# Altium integrated library Analog Devices RF IF Modulators and Demodulators.IntLib: 86 symbols (part 4 of 8)
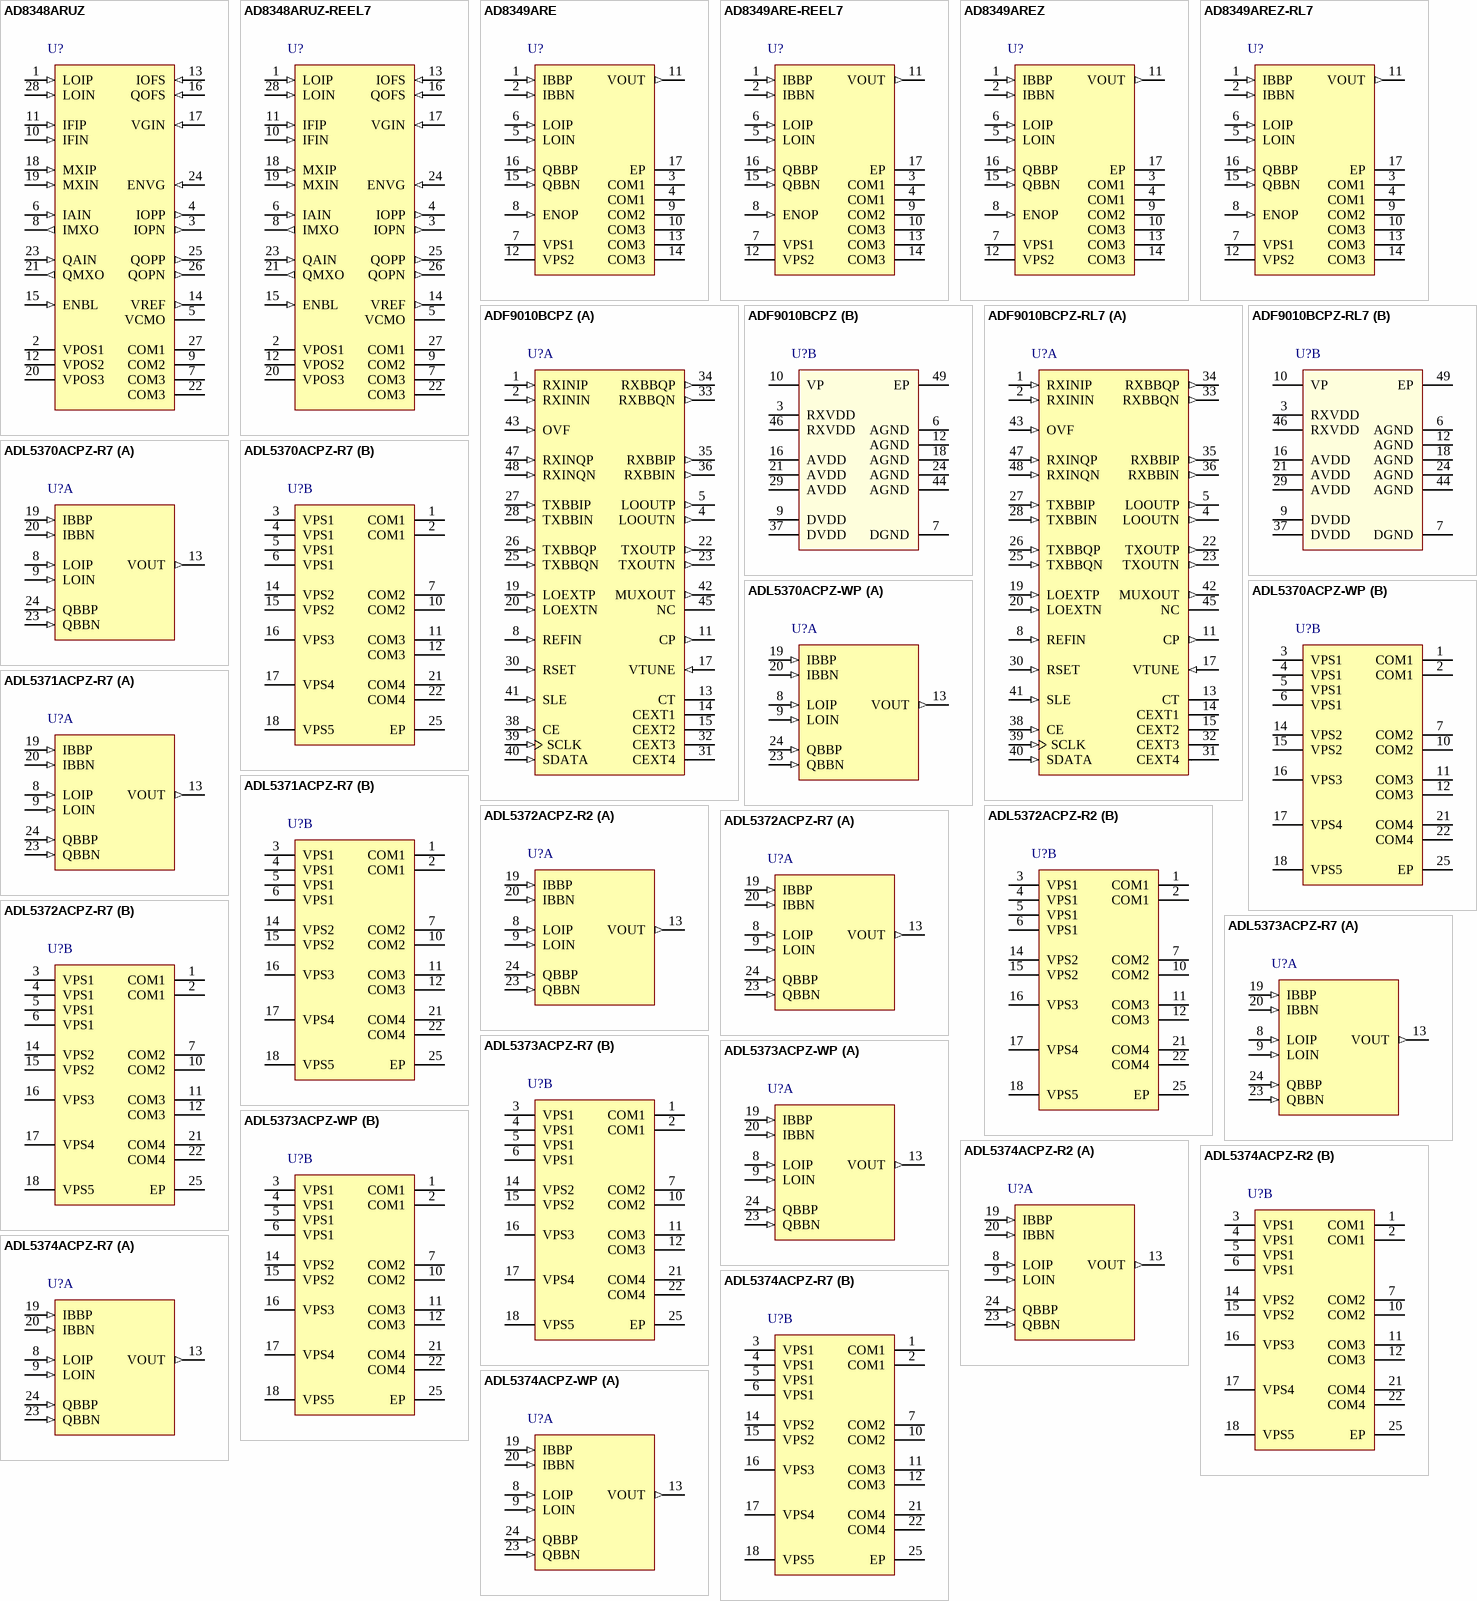
[diagram p8: symbols AD8348ARUZ to ADL5374ACPZ-WP]

## AD8349AREZ
designator U?
700 MHz to 2700 MHz Quadrature Modulator, RE-16-2, Pb-Free, 96 Tube; Min RF Frequency (MHz): 700MHz; Max RF Frequency (MHz): 2.7GHz; IQ Freq (MHz): 160MHz; Output P1dB (dBm): 6; DatasheetVersion: RevA; PackageVersion: 050806-A; PackageReference: RE-16-2; PackageDescription: 16-Lead Thin Shrink Small Outline With Exposed Pad [TSSOP_EP]; Code_JEDEC: MO-153-ABT; ComponentLink1Description: Manufacturer URL; ComponentLink1URL: www.analog.com; ComponentLink2Description: Datasheet; ComponentLink2URL: http://www.analog.com/static/imported-files/data_sheets/AD8349.pdf; ComponentLink3Description: Package Specification; ComponentLink3URL: http://www.analog.com/static/imported-files/packages/PKG_PDF/TSSOP_EP(RE)/RE_16_2.pdf
footprint ADI-RE-16-2_N (TSOP, 16-Leads, Body 5x4.4mm, Pitch 0.65mm, Thermal Pad, IPC Medium Density)
footprint ADI-RE-16-2_L (TSOP, 16-Leads, Body 5x4.4mm, Pitch 0.65mm, Thermal Pad, IPC High Density)
footprint ADI-RE-16-2_M (TSOP, 16-Leads, Body 5x4.4mm, Pitch 0.65mm, Thermal Pad, IPC Low Density)
pins: 1 IBBP (in) "Differential In-Phase and Quadrature Baseband Inputs. These high impedance inputs must be dc-biased to approximately 400 mV dc, and must be driven from a low impedance source. [see datasheet]", 2 IBBN (in) "Differential In-Phase and Quadrature Baseband Inputs. These high impedance inputs must be dc-biased to approximately 400 mV dc, and must be driven from a low impedance source. [see datasheet]", 3 COM1 (power) "Common Pin for LO Phase Splitter and LO Buffers. COM1, COM2, and COM3 should all be connected to a ground plane via a low impedance path.", 4 COM1 (power) "Common Pin for LO Phase Splitter and LO Buffers. COM1, COM2, and COM3 should all be connected to a ground plane via a low impedance path.", 5 LOIN (in) "Differential Local Oscillator Inputs. Internally dc-biased to approximately 1.8 V when VS = 5.0 V. Pins must be ac-coupled. Single-ended drive is possible with degradation in performance.", 6 LOIP (in) "Differential Local Oscillator Inputs. Internally dc-biased to approximately 1.8 V when VS = 5.0 V. Pins must be ac-coupled. Single-ended drive is possible with degradation in performance.", 7 VPS1 (power) "Positive Supply Voltage (4.75 V to 5.5 V) for the LO Bias-Cell and Buffer. VPS1 and VPS2 should be connected to the same supply. [see datasheet]", 8 ENOP (in) "Output Enable. This pin can be used to enable or disable the RF output. Connect to high logic level for normal operation. Connect to low logic level to disable output.", 9 COM2 (power) "Common Pin for the Output Amplifier. COM1, COM2, and COM3 should all be connected to a ground plane via a low impedance path.", 10 COM3 (power) "Common Pin for Input V-to-I Converters and Mixer Cores. COM1, COM2, and COM3 should all be connected to a ground plane via a low impedance path.", 11 VOUT (out) "Device Output. Single-ended, 50  ohm internally biased RF output. Pin must be ac-coupled to the load.", 12 VPS2 (power) "Positive Supply Voltage (4.75 V to 5.5 V) for the Baseband Input V-to-I Converters, Mixer Core, Band Gap Reference, and Output Amplifer. [see datasheet]", 13 COM3 (power) "Common Pin for Input V-to-I Converters and Mixer Cores. COM1, COM2, and COM3 should all be connected to a ground plane via a low impedance path.", 14 COM3 (power) "Common Pin for Input V-to-I Converters and Mixer Cores. COM1, COM2, and COM3 should all be connected to a ground plane via a low impedance path.", 15 QBBN (in) "Differential In-Phase and Quadrature Baseband Inputs. These high impedance inputs must be dc-biased to approximately 400 mV dc, and must be driven from a low impedance source. [see datasheet]", 16 QBBP (in) "Differential In-Phase and Quadrature Baseband Inputs. These high impedance inputs must be dc-biased to approximately 400 mV dc, and must be driven from a low impedance source. [see datasheet]", 17 EP (power) "Exposed Pad"

## AD8349AREZ-RL7
designator U?
700 MHz to 2700 MHz Quadrature Modulator, RE-16-2, Pb-Free, 1000 Reel; Min RF Frequency (MHz): 700MHz; Max RF Frequency (MHz): 2.7GHz; IQ Freq (MHz): 160MHz; Output P1dB (dBm): 6; DatasheetVersion: RevA; PackageVersion: 050806-A; PackageReference: RE-16-2; PackageDescription: 16-Lead Thin Shrink Small Outline With Exposed Pad [TSSOP_EP]; Code_JEDEC: MO-153-ABT; ComponentLink1Description: Manufacturer URL; ComponentLink1URL: www.analog.com; ComponentLink2Description: Datasheet; ComponentLink2URL: http://www.analog.com/static/imported-files/data_sheets/AD8349.pdf; ComponentLink3Description: Package Specification; ComponentLink3URL: http://www.analog.com/static/imported-files/packages/PKG_PDF/TSSOP_EP(RE)/RE_16_2.pdf
footprint ADI-RE-16-2_N (TSOP, 16-Leads, Body 5x4.4mm, Pitch 0.65mm, Thermal Pad, IPC Medium Density)
footprint ADI-RE-16-2_L (TSOP, 16-Leads, Body 5x4.4mm, Pitch 0.65mm, Thermal Pad, IPC High Density)
footprint ADI-RE-16-2_M (TSOP, 16-Leads, Body 5x4.4mm, Pitch 0.65mm, Thermal Pad, IPC Low Density)
pins: 1 IBBP (in) "Differential In-Phase and Quadrature Baseband Inputs. These high impedance inputs must be dc-biased to approximately 400 mV dc, and must be driven from a low impedance source. [see datasheet]", 2 IBBN (in) "Differential In-Phase and Quadrature Baseband Inputs. These high impedance inputs must be dc-biased to approximately 400 mV dc, and must be driven from a low impedance source. [see datasheet]", 3 COM1 (power) "Common Pin for LO Phase Splitter and LO Buffers. COM1, COM2, and COM3 should all be connected to a ground plane via a low impedance path.", 4 COM1 (power) "Common Pin for LO Phase Splitter and LO Buffers. COM1, COM2, and COM3 should all be connected to a ground plane via a low impedance path.", 5 LOIN (in) "Differential Local Oscillator Inputs. Internally dc-biased to approximately 1.8 V when VS = 5.0 V. Pins must be ac-coupled. Single-ended drive is possible with degradation in performance.", 6 LOIP (in) "Differential Local Oscillator Inputs. Internally dc-biased to approximately 1.8 V when VS = 5.0 V. Pins must be ac-coupled. Single-ended drive is possible with degradation in performance.", 7 VPS1 (power) "Positive Supply Voltage (4.75 V to 5.5 V) for the LO Bias-Cell and Buffer. VPS1 and VPS2 should be connected to the same supply. [see datasheet]", 8 ENOP (in) "Output Enable. This pin can be used to enable or disable the RF output. Connect to high logic level for normal operation. Connect to low logic level to disable output.", 9 COM2 (power) "Common Pin for the Output Amplifier. COM1, COM2, and COM3 should all be connected to a ground plane via a low impedance path.", 10 COM3 (power) "Common Pin for Input V-to-I Converters and Mixer Cores. COM1, COM2, and COM3 should all be connected to a ground plane via a low impedance path.", 11 VOUT (out) "Device Output. Single-ended, 50  ohm internally biased RF output. Pin must be ac-coupled to the load.", 12 VPS2 (power) "Positive Supply Voltage (4.75 V to 5.5 V) for the Baseband Input V-to-I Converters, Mixer Core, Band Gap Reference, and Output Amplifer. [see datasheet]", 13 COM3 (power) "Common Pin for Input V-to-I Converters and Mixer Cores. COM1, COM2, and COM3 should all be connected to a ground plane via a low impedance path.", 14 COM3 (power) "Common Pin for Input V-to-I Converters and Mixer Cores. COM1, COM2, and COM3 should all be connected to a ground plane via a low impedance path.", 15 QBBN (in) "Differential In-Phase and Quadrature Baseband Inputs. These high impedance inputs must be dc-biased to approximately 400 mV dc, and must be driven from a low impedance source. [see datasheet]", 16 QBBP (in) "Differential In-Phase and Quadrature Baseband Inputs. These high impedance inputs must be dc-biased to approximately 400 mV dc, and must be driven from a low impedance source. [see datasheet]", 17 EP (power) "Exposed Pad"

## ADF9010BCPZ
designator U?
900 MHz ISM Band Analog RF Front End, CP-48-1, Pb-Free, 260 Tray; Min RF Frequency (MHz): 840MHz; Max RF Frequency (MHz): 960MHz; IQ Freq (MHz): 20MHz; IIP3 (+dBm): 24dBm; Output P1dB (dBm): 10; DatasheetVersion: Rev0; PackageVersion: Jan-2005; PackageReference: CP-48-1; PackageDescription: 48-Lead Lead Frame Chip Scale Package [LFCSP_VQ]; Code_JEDEC: MO-220-VKKD-2; ComponentLink1Description: Manufacturer URL; ComponentLink1URL: www.analog.com; ComponentLink2Description: Datasheet; ComponentLink2URL: http://www.analog.com/static/imported-files/data_sheets/ADF9010.pdf; ComponentLink3Description: Package Specification; ComponentLink3URL: http://www.analog.com/static/imported-files/packages/PKG_PDF/LFCSP(CP)/CP-48/CP_48_1.pdf
footprint ADI-CP-48-1_N (QFN, 48-Leads, Body 7x7mm, Pitch 0.5mm, Thermal Pad 5.1x5.1mm, IPC Medium Density)
footprint ADI-CP-48-1_L (QFN, 48-Leads, Body 7x7mm, Pitch 0.5mm, Thermal Pad 5.1x5.1mm, IPC High Density)
footprint ADI-CP-48-1_M (QFN, 48-Leads, Body 7x7mm, Pitch 0.5mm, Thermal Pad 5.1x5.1mm, IPC Low Density)
part A pins: 1 RXINIP (in) "Input/Complementary In-Phase Input to the Receive Filter Stage", 2 RXININ (in) "Input/Complementary In-Phase Input to the Receive Filter Stage", 4 LOOUTN (out) "Buffered Local Oscillator Output. These outputs are used to provide the LO for the external RF demodulator. [see datasheet]", 5 LOOUTP (out) "Buffered Local Oscillator Output. These outputs are used to provide the LO for the external RF demodulator. [see datasheet]", 8 REFIN (in) "PLL Reference Input. This is a CMOS input with a nominal threshold of VDD/2 and a dc equivalent input resistance of 100 k ohm (see Figure 13). [see datasheet]", 11 CP (out) "Charge Pump Output. When enabled, this pin provides +/-ICP to the external loop filter, which in turn drives the external VCO.", 13 CT "A capacitor connected to this pin is used to roll off noise from the VCO. It should be decoupled to AGND with a value of 10 nF. The output voltage on this part is proportional to temperature. [see datasheet]", 14 CEXT1 "A capacitor connected to this pin is used to roll off noise from the VCO. It should be decoupled to AGND with a value of 10 nF.", 15 CEXT2 "A capacitor connected to this pin is used to roll off noise from the VCO. It should be decoupled to AGND with a value of 10 nF.", 17 VTUNE (in) "Control Input to the VCO. This input determines the VCO frequency and is derived from filtering the CP output.", 19 LOEXTP (in) "Single-Ended External VCO Input of 50  ohm. This is used if the ADF9010 utilizes an optional external VCO. These pins are internally dc-biased and must be ac-coupled. [see datasheet]", 20 LOEXTN (in) "Single-Ended External VCO Input of 50  ohm. This is used if the ADF9010 utilizes an optional external VCO. These pins are internally dc-biased and must be ac-coupled. [see datasheet]", 22 TXOUTP (out) "Buffered Tx Output. These pins contain the Tx output signal, which can be combined in a balun for best results.", 23 TXOUTN (out) "Buffered Tx Output. These pins contain the Tx output signal, which can be combined in a balun for best results.", 25 TXBBQN (in) "Baseband Quadrature Phase Input/Complementary Input to the Transmit Modulator.", 26 TXBBQP (in) "Baseband Quadrature Phase Input/Complementary Input to the Transmit Modulator.", 27 TXBBIP (in) "Baseband In-Phase Input/Complementary to the Transmit Modulator", 28 TXBBIN (in) "Baseband In-Phase Input/Complementary to the Transmit Modulator", 30 RSET (in) "Connecting a resistor between this pin and AGND sets the maximum charge pump output current. The nominal voltage potential at the RSET pin is 0.66 V. [see datasheet]", 31 CEXT4 "A capacitor connected to this pin is used to roll off noise from the VCO. It should be decoupled to AGND with a value of 10 nF.", 32 CEXT3 "A capacitor connected to this pin is used to roll off noise from the VCO. It should be decoupled to AGND with a value of 10 nF.", 33 RXBBQN (out) "Output/Complementary Filtered Quadrature Signals from the Receive Filter Stage. The filtered output is passed to the baseband MxFE chip.", 34 RXBBQP (out) "Output/Complementary Filtered Quadrature Signals from the Receive Filter Stage. The filtered output is passed to the baseband MxFE chip.", 35 RXBBIP (out) "Output/Complementary Filtered In-Phase from the Receive Filter Stage. The filtered output is passed to the baseband MxFE chip.", 36 RXBBIN (out) "Output/Complementary Filtered In-Phase from the Receive Filter Stage. The filtered output is passed to the baseband MxFE chip.", 38 CE (in) "Chip Enable. A Logic 0 on this pin powers down the device. A Logic 1 on this pin enables the device depending on the status of the power-down bits.", 39 SCLK (in) "Serial Clock Input. This serial clock is used to clock in the serial data to the registers. The data is latched into the 24-bit shift register on the SCLK rising edge. [see datasheet]", 40 SDATA (in) "Serial Data Input. The serial data is loaded MSB first with the two LSBs being the control bits. This is a high impedance CMOS input.", 41 SLE (in) "Load Enable, CMOS Input. When LE goes high, the data stored in the shift register is loaded into one of the four latches; the latch uses the control bits.", 42 MUXOUT (out) "This multiplexer output allows either the PLL lock detect, the scaled VCO frequency, or the scaled PLL reference frequency to be accessed externally", 43 OVF (in) "A rising edge on this pin drops the gain of the Rx path by 6 dB. This is used to rapidly drop the gain if the ADC detects an overload.", 45 NC "No Connect.", 47 RXINQP (in) "Input/Complementary Quadrature Input to the Receive Filter Stage.", 48 RXINQN (in) "Input/Complementary Quadrature Input to the Receive Filter Stage."
part B pins: 3 RXVDD (power) "Receiver Filter Power Supply. This voltage ranges from 3.15 V to 3.45 V. Decoupling capacitors to the analog ground plane should be placed as close as possible to this pin. [see datasheet]", 6 AGND (power) "Analog Ground. This is the ground return path of analog circuitry", 7 DGND (power) "Digital Ground.", 9 DVDD (power) "Digital Power Supply. This voltage ranges from 3.15 V to 3.45 V. Decoupling capacitors to the digital ground plane should be placed as close as possible to this pin. [see datasheet]", 10 VP (power) "This pin supplies the voltage to the charge pump. If the internal VCO is used, it should equal AVDD and DVDD. If an external VCO is used, the voltage can be AVDD < VP < 5.5 V.", 12 AGND (power) "Analog Ground. This is the ground return path of analog circuitry", 16 AVDD (power) "Analog Power Supply. This voltage ranges from 3.15 V to 3.45 V. Decoupling capacitors to the analog ground plane should be placed as close as possible to this pin. [see datasheet]", 18 AGND (power) "Analog Ground. This is the ground return path of analog circuitry", 21 AVDD (power) "Analog Power Supply. This voltage ranges from 3.15 V to 3.45 V. Decoupling capacitors to the analog ground plane should be placed as close as possible to this pin. [see datasheet]", 24 AGND (power) "Analog Ground. This is the ground return path of analog circuitry", 29 AVDD (power) "Analog Power Supply. This voltage ranges from 3.15 V to 3.45 V. Decoupling capacitors to the analog ground plane should be placed as close as possible to this pin. [see datasheet]", 37 DVDD (power) "Digital Power Supply. This voltage ranges from 3.15 V to 3.45 V. Decoupling capacitors to the digital ground plane should be placed as close as possible to this pin. [see datasheet]", 44 AGND (power) "Analog Ground. This is the ground return path of analog circuitry", 46 RXVDD (power) "Receiver Filter Power Supply. This voltage ranges from 3.15 V to 3.45 V. Decoupling capacitors to the analog ground plane should be placed as close as possible to this pin. [see datasheet]", 49 EP (power) "Exposed pad"

## ADF9010BCPZ-RL7
designator U?
900 MHz ISM Band Analog RF Front End, CP-48-1, Pb-Free, 750 Reel; Min RF Frequency (MHz): 840MHz; Max RF Frequency (MHz): 960MHz; IQ Freq (MHz): 20MHz; IIP3 (+dBm): 24dBm; Output P1dB (dBm): 10; DatasheetVersion: Rev0; PackageVersion: Jan-2005; PackageReference: CP-48-1; PackageDescription: 48-Lead Lead Frame Chip Scale Package [LFCSP_VQ]; Code_JEDEC: MO-220-VKKD-2; ComponentLink1Description: Manufacturer URL; ComponentLink1URL: www.analog.com; ComponentLink2Description: Datasheet; ComponentLink2URL: http://www.analog.com/static/imported-files/data_sheets/ADF9010.pdf; ComponentLink3Description: Package Specification; ComponentLink3URL: http://www.analog.com/static/imported-files/packages/PKG_PDF/LFCSP(CP)/CP-48/CP_48_1.pdf
footprint ADI-CP-48-1_N (QFN, 48-Leads, Body 7x7mm, Pitch 0.5mm, Thermal Pad 5.1x5.1mm, IPC Medium Density)
footprint ADI-CP-48-1_L (QFN, 48-Leads, Body 7x7mm, Pitch 0.5mm, Thermal Pad 5.1x5.1mm, IPC High Density)
footprint ADI-CP-48-1_M (QFN, 48-Leads, Body 7x7mm, Pitch 0.5mm, Thermal Pad 5.1x5.1mm, IPC Low Density)
part A pins: 1 RXINIP (in) "Input/Complementary In-Phase Input to the Receive Filter Stage", 2 RXININ (in) "Input/Complementary In-Phase Input to the Receive Filter Stage", 4 LOOUTN (out) "Buffered Local Oscillator Output. These outputs are used to provide the LO for the external RF demodulator. [see datasheet]", 5 LOOUTP (out) "Buffered Local Oscillator Output. These outputs are used to provide the LO for the external RF demodulator. [see datasheet]", 8 REFIN (in) "PLL Reference Input. This is a CMOS input with a nominal threshold of VDD/2 and a dc equivalent input resistance of 100 k ohm (see Figure 13). [see datasheet]", 11 CP (out) "Charge Pump Output. When enabled, this pin provides +/-ICP to the external loop filter, which in turn drives the external VCO.", 13 CT "A capacitor connected to this pin is used to roll off noise from the VCO. It should be decoupled to AGND with a value of 10 nF. The output voltage on this part is proportional to temperature. [see datasheet]", 14 CEXT1 "A capacitor connected to this pin is used to roll off noise from the VCO. It should be decoupled to AGND with a value of 10 nF.", 15 CEXT2 "A capacitor connected to this pin is used to roll off noise from the VCO. It should be decoupled to AGND with a value of 10 nF.", 17 VTUNE (in) "Control Input to the VCO. This input determines the VCO frequency and is derived from filtering the CP output.", 19 LOEXTP (in) "Single-Ended External VCO Input of 50  ohm. This is used if the ADF9010 utilizes an optional external VCO. These pins are internally dc-biased and must be ac-coupled. [see datasheet]", 20 LOEXTN (in) "Single-Ended External VCO Input of 50  ohm. This is used if the ADF9010 utilizes an optional external VCO. These pins are internally dc-biased and must be ac-coupled. [see datasheet]", 22 TXOUTP (out) "Buffered Tx Output. These pins contain the Tx output signal, which can be combined in a balun for best results.", 23 TXOUTN (out) "Buffered Tx Output. These pins contain the Tx output signal, which can be combined in a balun for best results.", 25 TXBBQN (in) "Baseband Quadrature Phase Input/Complementary Input to the Transmit Modulator.", 26 TXBBQP (in) "Baseband Quadrature Phase Input/Complementary Input to the Transmit Modulator.", 27 TXBBIP (in) "Baseband In-Phase Input/Complementary to the Transmit Modulator", 28 TXBBIN (in) "Baseband In-Phase Input/Complementary to the Transmit Modulator", 30 RSET (in) "Connecting a resistor between this pin and AGND sets the maximum charge pump output current. The nominal voltage potential at the RSET pin is 0.66 V. [see datasheet]", 31 CEXT4 "A capacitor connected to this pin is used to roll off noise from the VCO. It should be decoupled to AGND with a value of 10 nF.", 32 CEXT3 "A capacitor connected to this pin is used to roll off noise from the VCO. It should be decoupled to AGND with a value of 10 nF.", 33 RXBBQN (out) "Output/Complementary Filtered Quadrature Signals from the Receive Filter Stage. The filtered output is passed to the baseband MxFE chip.", 34 RXBBQP (out) "Output/Complementary Filtered Quadrature Signals from the Receive Filter Stage. The filtered output is passed to the baseband MxFE chip.", 35 RXBBIP (out) "Output/Complementary Filtered In-Phase from the Receive Filter Stage. The filtered output is passed to the baseband MxFE chip.", 36 RXBBIN (out) "Output/Complementary Filtered In-Phase from the Receive Filter Stage. The filtered output is passed to the baseband MxFE chip.", 38 CE (in) "Chip Enable. A Logic 0 on this pin powers down the device. A Logic 1 on this pin enables the device depending on the status of the power-down bits.", 39 SCLK (in) "Serial Clock Input. This serial clock is used to clock in the serial data to the registers. The data is latched into the 24-bit shift register on the SCLK rising edge. [see datasheet]", 40 SDATA (in) "Serial Data Input. The serial data is loaded MSB first with the two LSBs being the control bits. This is a high impedance CMOS input.", 41 SLE (in) "Load Enable, CMOS Input. When LE goes high, the data stored in the shift register is loaded into one of the four latches; the latch uses the control bits.", 42 MUXOUT (out) "This multiplexer output allows either the PLL lock detect, the scaled VCO frequency, or the scaled PLL reference frequency to be accessed externally", 43 OVF (in) "A rising edge on this pin drops the gain of the Rx path by 6 dB. This is used to rapidly drop the gain if the ADC detects an overload.", 45 NC "No Connect.", 47 RXINQP (in) "Input/Complementary Quadrature Input to the Receive Filter Stage.", 48 RXINQN (in) "Input/Complementary Quadrature Input to the Receive Filter Stage."
part B pins: 3 RXVDD (power) "Receiver Filter Power Supply. This voltage ranges from 3.15 V to 3.45 V. Decoupling capacitors to the analog ground plane should be placed as close as possible to this pin. [see datasheet]", 6 AGND (power) "Analog Ground. This is the ground return path of analog circuitry", 7 DGND (power) "Digital Ground.", 9 DVDD (power) "Digital Power Supply. This voltage ranges from 3.15 V to 3.45 V. Decoupling capacitors to the digital ground plane should be placed as close as possible to this pin. [see datasheet]", 10 VP (power) "This pin supplies the voltage to the charge pump. If the internal VCO is used, it should equal AVDD and DVDD. If an external VCO is used, the voltage can be AVDD < VP < 5.5 V.", 12 AGND (power) "Analog Ground. This is the ground return path of analog circuitry", 16 AVDD (power) "Analog Power Supply. This voltage ranges from 3.15 V to 3.45 V. Decoupling capacitors to the analog ground plane should be placed as close as possible to this pin. [see datasheet]", 18 AGND (power) "Analog Ground. This is the ground return path of analog circuitry", 21 AVDD (power) "Analog Power Supply. This voltage ranges from 3.15 V to 3.45 V. Decoupling capacitors to the analog ground plane should be placed as close as possible to this pin. [see datasheet]", 24 AGND (power) "Analog Ground. This is the ground return path of analog circuitry", 29 AVDD (power) "Analog Power Supply. This voltage ranges from 3.15 V to 3.45 V. Decoupling capacitors to the analog ground plane should be placed as close as possible to this pin. [see datasheet]", 37 DVDD (power) "Digital Power Supply. This voltage ranges from 3.15 V to 3.45 V. Decoupling capacitors to the digital ground plane should be placed as close as possible to this pin. [see datasheet]", 44 AGND (power) "Analog Ground. This is the ground return path of analog circuitry", 46 RXVDD (power) "Receiver Filter Power Supply. This voltage ranges from 3.15 V to 3.45 V. Decoupling capacitors to the analog ground plane should be placed as close as possible to this pin. [see datasheet]", 49 EP (power) "Exposed pad"

## ADL5370ACPZ-R7
designator U?
300 MHz to 1000 MHz Quadrature Modulator, CP-24-2, Pb-Free, 1500 Reel; Min RF Frequency (MHz): 250MHz; Max RF Frequency (MHz): 1.3GHz; IQ Freq (MHz): 700MHz; IIP3 (+dBm): 24dBm; Output P1dB (dBm): 11; DatasheetVersion: Rev0; PackageVersion: Jan-2005; PackageReference: CP-24-2; PackageDescription: 24-Lead Lead Frame Chip Scale Package [LFCSP_VQ]; Code_JEDEC: MO-220-VGGD-2; ComponentLink1Description: Manufacturer URL; ComponentLink1URL: www.analog.com; ComponentLink2Description: Datasheet; ComponentLink2URL: http://www.analog.com/static/imported-files/data_sheets/ADL5370.pdf; ComponentLink3Description: Package Specification; ComponentLink3URL: http://www.analog.com/static/imported-files/packages/588305704543880784658541CP_24_2.pdf
footprint ADI-CP-24-2_N (QFN, 24-Leads, Body 4x4mm, Pitch 0.5mm, Thermal Pad 2.3x2.3mm, IPC Medium Density)
footprint ADI-CP-24-2_L (QFN, 24-Leads, Body 4x4mm, Pitch 0.5mm, Thermal Pad 2.3x2.3mm, IPC High Density)
footprint ADI-CP-24-2_M (QFN, 24-Leads, Body 4x4mm, Pitch 0.5mm, Thermal Pad 2.3x2.3mm, IPC Low Density)
part A pins: 8 LOIP (in) "50  ohm Single-Ended Local Oscillator Input. Internally dc-biased. Pins must be ac-coupled. AC-couple LOIN to ground and drive LO through LOIP.", 9 LOIN (in) "50  ohm Single-Ended Local Oscillator Input. Internally dc-biased. Pins must be ac-coupled. AC-couple LOIN to ground and drive LO through LOIP.", 13 VOUT (out) "Device Output. Single-ended, 50 Ohm internally biased RF output. Pin must be ac-coupled to the load.", 19 IBBP (in) "Differential In-Phase and Quadrature Baseband Inputs. These high impedance inputs must be dc-biased to 500 mV dc and must be driven from a low impedance source. [see datasheet]", 20 IBBN (in) "Differential In-Phase and Quadrature Baseband Inputs. These high impedance inputs must be dc-biased to 500 mV dc and must be driven from a low impedance source. [see datasheet]", 23 QBBN (in) "Differential In-Phase and Quadrature Baseband Inputs. These high impedance inputs must be dc-biased to 500 mV dc and must be driven from a low impedance source. [see datasheet]", 24 QBBP (in) "Differential In-Phase and Quadrature Baseband Inputs. These high impedance inputs must be dc-biased to 500 mV dc and must be driven from a low impedance source. [see datasheet]"
part B pins: 1 COM1 (power) "Input Common Pins. Connect to ground plane via a low impedance path.", 2 COM1 (power) "Input Common Pins. Connect to ground plane via a low impedance path.", 3 VPS1 (power) "Positive Supply Voltage Pins. All pins should be connected to the same supply (VS). To ensure adequate external bypassing, connect 0.1 uF capacitors between each pin and ground. [see datasheet]", 4 VPS1 (power) "Positive Supply Voltage Pins. All pins should be connected to the same supply (VS). To ensure adequate external bypassing, connect 0.1 uF capacitors between each pin and ground. [see datasheet]", 5 VPS1 (power) "Positive Supply Voltage Pins. All pins should be connected to the same supply (VS). To ensure adequate external bypassing, connect 0.1 uF capacitors between each pin and ground. [see datasheet]", 6 VPS1 (power) "Positive Supply Voltage Pins. All pins should be connected to the same supply (VS). To ensure adequate external bypassing, connect 0.1 uF capacitors between each pin and ground. [see datasheet]", 7 COM2 (power) "Input Common Pins. Connect to ground plane via a low impedance path.", 10 COM2 (power) "Input Common Pins. Connect to ground plane via a low impedance path.", 11 COM3 (power) "Input Common Pins. Connect to ground plane via a low impedance path.", 12 COM3 (power) "Input Common Pins. Connect to ground plane via a low impedance path.", 14 VPS2 (power) "Positive Supply Voltage Pins. All pins should be connected to the same supply (VS). To ensure adequate external bypassing, connect 0.1 uF capacitors between each pin and ground. [see datasheet]", 15 VPS2 (power) "Positive Supply Voltage Pins. All pins should be connected to the same supply (VS). To ensure adequate external bypassing, connect 0.1 uF capacitors between each pin and ground. [see datasheet]", 16 VPS3 (power) "Positive Supply Voltage Pins. All pins should be connected to the same supply (VS). To ensure adequate external bypassing, connect 0.1 uF capacitors between each pin and ground. [see datasheet]", 17 VPS4 (power) "Positive Supply Voltage Pins. All pins should be connected to the same supply (VS). To ensure adequate external bypassing, connect 0.1 uF capacitors between each pin and ground. [see datasheet]", 18 VPS5 (power) "Positive Supply Voltage Pins. All pins should be connected to the same supply (VS). To ensure adequate external bypassing, connect 0.1 uF capacitors between each pin and ground. [see datasheet]", 21 COM4 (power) "Input Common Pins. Connect to ground plane via a low impedance path.", 22 COM4 (power) "Input Common Pins. Connect to ground plane via a low impedance path.", 25 EP (power) "Connect to ground plane via a low impedance path."

## ADL5370ACPZ-WP
designator U?
300 MHz to 1000 MHz Quadrature Modulator, CP-24-2, Pb-Free, 64 Tray; Min RF Frequency (MHz): 250MHz; Max RF Frequency (MHz): 1.3GHz; IQ Freq (MHz): 700MHz; IIP3 (+dBm): 24dBm; Output P1dB (dBm): 11; DatasheetVersion: Rev0; PackageVersion: Jan-2005; PackageReference: CP-24-2; PackageDescription: 24-Lead Lead Frame Chip Scale Package [LFCSP_VQ]; Code_JEDEC: MO-220-VGGD-2; ComponentLink1Description: Manufacturer URL; ComponentLink1URL: www.analog.com; ComponentLink2Description: Datasheet; ComponentLink2URL: http://www.analog.com/static/imported-files/data_sheets/ADL5370.pdf; ComponentLink3Description: Package Specification; ComponentLink3URL: http://www.analog.com/static/imported-files/packages/588305704543880784658541CP_24_2.pdf
footprint ADI-CP-24-2_N (QFN, 24-Leads, Body 4x4mm, Pitch 0.5mm, Thermal Pad 2.3x2.3mm, IPC Medium Density)
footprint ADI-CP-24-2_L (QFN, 24-Leads, Body 4x4mm, Pitch 0.5mm, Thermal Pad 2.3x2.3mm, IPC High Density)
footprint ADI-CP-24-2_M (QFN, 24-Leads, Body 4x4mm, Pitch 0.5mm, Thermal Pad 2.3x2.3mm, IPC Low Density)
part A pins: 8 LOIP (in) "50  ohm Single-Ended Local Oscillator Input. Internally dc-biased. Pins must be ac-coupled. AC-couple LOIN to ground and drive LO through LOIP.", 9 LOIN (in) "50  ohm Single-Ended Local Oscillator Input. Internally dc-biased. Pins must be ac-coupled. AC-couple LOIN to ground and drive LO through LOIP.", 13 VOUT (out) "Device Output. Single-ended, 50 Ohm internally biased RF output. Pin must be ac-coupled to the load.", 19 IBBP (in) "Differential In-Phase and Quadrature Baseband Inputs. These high impedance inputs must be dc-biased to 500 mV dc and must be driven from a low impedance source. [see datasheet]", 20 IBBN (in) "Differential In-Phase and Quadrature Baseband Inputs. These high impedance inputs must be dc-biased to 500 mV dc and must be driven from a low impedance source. [see datasheet]", 23 QBBN (in) "Differential In-Phase and Quadrature Baseband Inputs. These high impedance inputs must be dc-biased to 500 mV dc and must be driven from a low impedance source. [see datasheet]", 24 QBBP (in) "Differential In-Phase and Quadrature Baseband Inputs. These high impedance inputs must be dc-biased to 500 mV dc and must be driven from a low impedance source. [see datasheet]"
part B pins: 1 COM1 (power) "Input Common Pins. Connect to ground plane via a low impedance path.", 2 COM1 (power) "Input Common Pins. Connect to ground plane via a low impedance path.", 3 VPS1 (power) "Positive Supply Voltage Pins. All pins should be connected to the same supply (VS). To ensure adequate external bypassing, connect 0.1 uF capacitors between each pin and ground. [see datasheet]", 4 VPS1 (power) "Positive Supply Voltage Pins. All pins should be connected to the same supply (VS). To ensure adequate external bypassing, connect 0.1 uF capacitors between each pin and ground. [see datasheet]", 5 VPS1 (power) "Positive Supply Voltage Pins. All pins should be connected to the same supply (VS). To ensure adequate external bypassing, connect 0.1 uF capacitors between each pin and ground. [see datasheet]", 6 VPS1 (power) "Positive Supply Voltage Pins. All pins should be connected to the same supply (VS). To ensure adequate external bypassing, connect 0.1 uF capacitors between each pin and ground. [see datasheet]", 7 COM2 (power) "Input Common Pins. Connect to ground plane via a low impedance path.", 10 COM2 (power) "Input Common Pins. Connect to ground plane via a low impedance path.", 11 COM3 (power) "Input Common Pins. Connect to ground plane via a low impedance path.", 12 COM3 (power) "Input Common Pins. Connect to ground plane via a low impedance path.", 14 VPS2 (power) "Positive Supply Voltage Pins. All pins should be connected to the same supply (VS). To ensure adequate external bypassing, connect 0.1 uF capacitors between each pin and ground. [see datasheet]", 15 VPS2 (power) "Positive Supply Voltage Pins. All pins should be connected to the same supply (VS). To ensure adequate external bypassing, connect 0.1 uF capacitors between each pin and ground. [see datasheet]", 16 VPS3 (power) "Positive Supply Voltage Pins. All pins should be connected to the same supply (VS). To ensure adequate external bypassing, connect 0.1 uF capacitors between each pin and ground. [see datasheet]", 17 VPS4 (power) "Positive Supply Voltage Pins. All pins should be connected to the same supply (VS). To ensure adequate external bypassing, connect 0.1 uF capacitors between each pin and ground. [see datasheet]", 18 VPS5 (power) "Positive Supply Voltage Pins. All pins should be connected to the same supply (VS). To ensure adequate external bypassing, connect 0.1 uF capacitors between each pin and ground. [see datasheet]", 21 COM4 (power) "Input Common Pins. Connect to ground plane via a low impedance path.", 22 COM4 (power) "Input Common Pins. Connect to ground plane via a low impedance path.", 25 EP (power) "Connect to ground plane via a low impedance path."

## ADL5371ACPZ-R7
designator U?
500 MHz to 1500 MHz Quadrature Modulator, CP-24-2, Pb-Free, 1500 Reel; Min RF Frequency (MHz): 700MHz; Max RF Frequency (MHz): 1.3GHz; IQ Freq (MHz): 500MHz; IIP3 (+dBm): 27dBm; Output P1dB (dBm): 14.4; DatasheetVersion: Rev0; PackageVersion: Jan-2005; PackageReference: CP-24-2; PackageDescription: 24-Lead Lead Frame Chip Scale Package [LFCSP_VQ]; Code_JEDEC: MO-220-VGGD-2; ComponentLink1Description: Manufacturer URL; ComponentLink1URL: www.analog.com; ComponentLink2Description: Datasheet; ComponentLink2URL: http://www.analog.com/static/imported-files/data_sheets/ADL5371.pdf; ComponentLink3Description: Package Specification; ComponentLink3URL: http://www.analog.com/static/imported-files/packages/588305704543880784658541CP_24_2.pdf
footprint ADI-CP-24-2_N (QFN, 24-Leads, Body 4x4mm, Pitch 0.5mm, Thermal Pad 2.3x2.3mm, IPC Medium Density)
footprint ADI-CP-24-2_L (QFN, 24-Leads, Body 4x4mm, Pitch 0.5mm, Thermal Pad 2.3x2.3mm, IPC High Density)
footprint ADI-CP-24-2_M (QFN, 24-Leads, Body 4x4mm, Pitch 0.5mm, Thermal Pad 2.3x2.3mm, IPC Low Density)
part A pins: 8 LOIP (in) "50  ohm Single-Ended Local Oscillator Input. Internally dc-biased. Pins must be ac-coupled. AC-couple LOIN to ground and drive LO through LOIP.", 9 LOIN (in) "50  ohm Single-Ended Local Oscillator Input. Internally dc-biased. Pins must be ac-coupled. AC-couple LOIN to ground and drive LO through LOIP.", 13 VOUT (out) "Device Output. Single-ended RF output. Pin should be ac-coupled to the load. The output is ground referenced.", 19 IBBP (in) "Differential In-Phase and Quadrature Baseband Inputs. These high impedance inputs must be dc-biased to 500 mV dc and must be driven from a low impedance source. [see datasheet]", 20 IBBN (in) "Differential In-Phase and Quadrature Baseband Inputs. These high impedance inputs must be dc-biased to 500 mV dc and must be driven from a low impedance source. [see datasheet]", 23 QBBN (in) "Differential In-Phase and Quadrature Baseband Inputs. These high impedance inputs must be dc-biased to 500 mV dc and must be driven from a low impedance source. [see datasheet]", 24 QBBP (in) "Differential In-Phase and Quadrature Baseband Inputs. These high impedance inputs must be dc-biased to 500 mV dc and must be driven from a low impedance source. [see datasheet]"
part B pins: 1 COM1 (power) "Input Common Pins. Connect to ground plane via a low impedance path.", 2 COM1 (power) "Input Common Pins. Connect to ground plane via a low impedance path.", 3 VPS1 (power) "Positive Supply Voltage Pins. All pins should be connected to the same supply (VS). To ensure adequate external bypassing, connect 0.1 uF capacitors between each pin and ground. [see datasheet]", 4 VPS1 (power) "Positive Supply Voltage Pins. All pins should be connected to the same supply (VS). To ensure adequate external bypassing, connect 0.1 uF capacitors between each pin and ground. [see datasheet]", 5 VPS1 (power) "Positive Supply Voltage Pins. All pins should be connected to the same supply (VS). To ensure adequate external bypassing, connect 0.1 uF capacitors between each pin and ground. [see datasheet]", 6 VPS1 (power) "Positive Supply Voltage Pins. All pins should be connected to the same supply (VS). To ensure adequate external bypassing, connect 0.1 uF capacitors between each pin and ground. [see datasheet]", 7 COM2 (power) "Input Common Pins. Connect to ground plane via a low impedance path.", 10 COM2 (power) "Input Common Pins. Connect to ground plane via a low impedance path.", 11 COM3 (power) "Input Common Pins. Connect to ground plane via a low impedance path.", 12 COM3 (power) "Input Common Pins. Connect to ground plane via a low impedance path.", 14 VPS2 (power) "Positive Supply Voltage Pins. All pins should be connected to the same supply (VS). To ensure adequate external bypassing, connect 0.1 uF capacitors between each pin and ground. [see datasheet]", 15 VPS2 (power) "Positive Supply Voltage Pins. All pins should be connected to the same supply (VS). To ensure adequate external bypassing, connect 0.1 uF capacitors between each pin and ground. [see datasheet]", 16 VPS3 (power) "Positive Supply Voltage Pins. All pins should be connected to the same supply (VS). To ensure adequate external bypassing, connect 0.1 uF capacitors between each pin and ground. [see datasheet]", 17 VPS4 (power) "Positive Supply Voltage Pins. All pins should be connected to the same supply (VS). To ensure adequate external bypassing, connect 0.1 uF capacitors between each pin and ground. [see datasheet]", 18 VPS5 (power) "Positive Supply Voltage Pins. All pins should be connected to the same supply (VS). To ensure adequate external bypassing, connect 0.1 uF capacitors between each pin and ground. [see datasheet]", 21 COM4 (power) "Input Common Pins. Connect to ground plane via a low impedance path.", 22 COM4 (power) "Input Common Pins. Connect to ground plane via a low impedance path.", 25 EP (power) "Connect to ground plane via a low impedance path."

## ADL5372ACPZ-R2
designator U?
1500 MHz to 2500 MHz Quadrature Modulator, CP-24-2, Pb-Free, 250 Reel; Min RF Frequency (MHz): 1.5GHz; Max RF Frequency (MHz): 2.5GHz; IQ Freq (MHz): 500MHz; IIP3 (+dBm): 27dBm; Output P1dB (dBm): 14.2; DatasheetVersion: Rev0; PackageVersion: Jan-2005; PackageReference: CP-24-2; PackageDescription: 24-Lead Lead Frame Chip Scale Package [LFCSP_VQ]; Code_JEDEC: MO-220-VGGD-2; ComponentLink1Description: Manufacturer URL; ComponentLink1URL: www.analog.com; ComponentLink2Description: Datasheet; ComponentLink2URL: http://www.analog.com/static/imported-files/data_sheets/ADL5372.pdf; ComponentLink3Description: Package Specification; ComponentLink3URL: http://www.analog.com/static/imported-files/packages/588305704543880784658541CP_24_2.pdf
footprint ADI-CP-24-2_N (QFN, 24-Leads, Body 4x4mm, Pitch 0.5mm, Thermal Pad 2.3x2.3mm, IPC Medium Density)
footprint ADI-CP-24-2_L (QFN, 24-Leads, Body 4x4mm, Pitch 0.5mm, Thermal Pad 2.3x2.3mm, IPC High Density)
footprint ADI-CP-24-2_M (QFN, 24-Leads, Body 4x4mm, Pitch 0.5mm, Thermal Pad 2.3x2.3mm, IPC Low Density)
part A pins: 8 LOIP (in) "50  ohm Single-Ended Local Oscillator Input. Internally dc-biased. Pins must be ac-coupled. AC-couple LOIN to ground and drive LO through LOIP.", 9 LOIN (in) "50  ohm Single-Ended Local Oscillator Input. Internally dc-biased. Pins must be ac-coupled. AC-couple LOIN to ground and drive LO through LOIP.", 13 VOUT (out) "Device Output. Single-ended RF output. Pin should be ac-coupled to the load. The output is ground referenced.", 19 IBBP (in) "Differential In-Phase and Quadrature Baseband Inputs. These high impedance inputs must be dc-biased to 500 mV dc and must be driven from a low impedance source. [see datasheet]", 20 IBBN (in) "Differential In-Phase and Quadrature Baseband Inputs. These high impedance inputs must be dc-biased to 500 mV dc and must be driven from a low impedance source. [see datasheet]", 23 QBBN (in) "Differential In-Phase and Quadrature Baseband Inputs. These high impedance inputs must be dc-biased to 500 mV dc and must be driven from a low impedance source. [see datasheet]", 24 QBBP (in) "Differential In-Phase and Quadrature Baseband Inputs. These high impedance inputs must be dc-biased to 500 mV dc and must be driven from a low impedance source. [see datasheet]"
part B pins: 1 COM1 (power) "Input Common Pins. Connect to ground plane via a low impedance path.", 2 COM1 (power) "Input Common Pins. Connect to ground plane via a low impedance path.", 3 VPS1 (power) "Positive Supply Voltage Pins. All pins should be connected to the same supply (VS). To ensure adequate external bypassing, connect 0.1 uF capacitors between each pin and ground. [see datasheet]", 4 VPS1 (power) "Positive Supply Voltage Pins. All pins should be connected to the same supply (VS). To ensure adequate external bypassing, connect 0.1 uF capacitors between each pin and ground. [see datasheet]", 5 VPS1 (power) "Positive Supply Voltage Pins. All pins should be connected to the same supply (VS). To ensure adequate external bypassing, connect 0.1 uF capacitors between each pin and ground. [see datasheet]", 6 VPS1 (power) "Positive Supply Voltage Pins. All pins should be connected to the same supply (VS). To ensure adequate external bypassing, connect 0.1 uF capacitors between each pin and ground. [see datasheet]", 7 COM2 (power) "Input Common Pins. Connect to ground plane via a low impedance path.", 10 COM2 (power) "Input Common Pins. Connect to ground plane via a low impedance path.", 11 COM3 (power) "Input Common Pins. Connect to ground plane via a low impedance path.", 12 COM3 (power) "Input Common Pins. Connect to ground plane via a low impedance path.", 14 VPS2 (power) "Positive Supply Voltage Pins. All pins should be connected to the same supply (VS). To ensure adequate external bypassing, connect 0.1 uF capacitors between each pin and ground. [see datasheet]", 15 VPS2 (power) "Positive Supply Voltage Pins. All pins should be connected to the same supply (VS). To ensure adequate external bypassing, connect 0.1 uF capacitors between each pin and ground. [see datasheet]", 16 VPS3 (power) "Positive Supply Voltage Pins. All pins should be connected to the same supply (VS). To ensure adequate external bypassing, connect 0.1 uF capacitors between each pin and ground. [see datasheet]", 17 VPS4 (power) "Positive Supply Voltage Pins. All pins should be connected to the same supply (VS). To ensure adequate external bypassing, connect 0.1 uF capacitors between each pin and ground. [see datasheet]", 18 VPS5 (power) "Positive Supply Voltage Pins. All pins should be connected to the same supply (VS). To ensure adequate external bypassing, connect 0.1 uF capacitors between each pin and ground. [see datasheet]", 21 COM4 (power) "Input Common Pins. Connect to ground plane via a low impedance path.", 22 COM4 (power) "Input Common Pins. Connect to ground plane via a low impedance path.", 25 EP (power) "Connect to ground plane via a low impedance path."

## ADL5372ACPZ-R7
designator U?
1500 MHz to 2500 MHz Quadrature Modulator, CP-24-2, Pb-Free, 1500 Reel; Min RF Frequency (MHz): 1.5GHz; Max RF Frequency (MHz): 2.5GHz; IQ Freq (MHz): 500MHz; IIP3 (+dBm): 27dBm; Output P1dB (dBm): 14.2; DatasheetVersion: Rev0; PackageVersion: Jan-2005; PackageReference: CP-24-2; PackageDescription: 24-Lead Lead Frame Chip Scale Package [LFCSP_VQ]; Code_JEDEC: MO-220-VGGD-2; ComponentLink1Description: Manufacturer URL; ComponentLink1URL: www.analog.com; ComponentLink2Description: Datasheet; ComponentLink2URL: http://www.analog.com/static/imported-files/data_sheets/ADL5372.pdf; ComponentLink3Description: Package Specification; ComponentLink3URL: http://www.analog.com/static/imported-files/packages/588305704543880784658541CP_24_2.pdf
footprint ADI-CP-24-2_N (QFN, 24-Leads, Body 4x4mm, Pitch 0.5mm, Thermal Pad 2.3x2.3mm, IPC Medium Density)
footprint ADI-CP-24-2_L (QFN, 24-Leads, Body 4x4mm, Pitch 0.5mm, Thermal Pad 2.3x2.3mm, IPC High Density)
footprint ADI-CP-24-2_M (QFN, 24-Leads, Body 4x4mm, Pitch 0.5mm, Thermal Pad 2.3x2.3mm, IPC Low Density)
part A pins: 8 LOIP (in) "50  ohm Single-Ended Local Oscillator Input. Internally dc-biased. Pins must be ac-coupled. AC-couple LOIN to ground and drive LO through LOIP.", 9 LOIN (in) "50  ohm Single-Ended Local Oscillator Input. Internally dc-biased. Pins must be ac-coupled. AC-couple LOIN to ground and drive LO through LOIP.", 13 VOUT (out) "Device Output. Single-ended RF output. Pin should be ac-coupled to the load. The output is ground referenced.", 19 IBBP (in) "Differential In-Phase and Quadrature Baseband Inputs. These high impedance inputs must be dc-biased to 500 mV dc and must be driven from a low impedance source. [see datasheet]", 20 IBBN (in) "Differential In-Phase and Quadrature Baseband Inputs. These high impedance inputs must be dc-biased to 500 mV dc and must be driven from a low impedance source. [see datasheet]", 23 QBBN (in) "Differential In-Phase and Quadrature Baseband Inputs. These high impedance inputs must be dc-biased to 500 mV dc and must be driven from a low impedance source. [see datasheet]", 24 QBBP (in) "Differential In-Phase and Quadrature Baseband Inputs. These high impedance inputs must be dc-biased to 500 mV dc and must be driven from a low impedance source. [see datasheet]"
part B pins: 1 COM1 (power) "Input Common Pins. Connect to ground plane via a low impedance path.", 2 COM1 (power) "Input Common Pins. Connect to ground plane via a low impedance path.", 3 VPS1 (power) "Positive Supply Voltage Pins. All pins should be connected to the same supply (VS). To ensure adequate external bypassing, connect 0.1 uF capacitors between each pin and ground. [see datasheet]", 4 VPS1 (power) "Positive Supply Voltage Pins. All pins should be connected to the same supply (VS). To ensure adequate external bypassing, connect 0.1 uF capacitors between each pin and ground. [see datasheet]", 5 VPS1 (power) "Positive Supply Voltage Pins. All pins should be connected to the same supply (VS). To ensure adequate external bypassing, connect 0.1 uF capacitors between each pin and ground. [see datasheet]", 6 VPS1 (power) "Positive Supply Voltage Pins. All pins should be connected to the same supply (VS). To ensure adequate external bypassing, connect 0.1 uF capacitors between each pin and ground. [see datasheet]", 7 COM2 (power) "Input Common Pins. Connect to ground plane via a low impedance path.", 10 COM2 (power) "Input Common Pins. Connect to ground plane via a low impedance path.", 11 COM3 (power) "Input Common Pins. Connect to ground plane via a low impedance path.", 12 COM3 (power) "Input Common Pins. Connect to ground plane via a low impedance path.", 14 VPS2 (power) "Positive Supply Voltage Pins. All pins should be connected to the same supply (VS). To ensure adequate external bypassing, connect 0.1 uF capacitors between each pin and ground. [see datasheet]", 15 VPS2 (power) "Positive Supply Voltage Pins. All pins should be connected to the same supply (VS). To ensure adequate external bypassing, connect 0.1 uF capacitors between each pin and ground. [see datasheet]", 16 VPS3 (power) "Positive Supply Voltage Pins. All pins should be connected to the same supply (VS). To ensure adequate external bypassing, connect 0.1 uF capacitors between each pin and ground. [see datasheet]", 17 VPS4 (power) "Positive Supply Voltage Pins. All pins should be connected to the same supply (VS). To ensure adequate external bypassing, connect 0.1 uF capacitors between each pin and ground. [see datasheet]", 18 VPS5 (power) "Positive Supply Voltage Pins. All pins should be connected to the same supply (VS). To ensure adequate external bypassing, connect 0.1 uF capacitors between each pin and ground. [see datasheet]", 21 COM4 (power) "Input Common Pins. Connect to ground plane via a low impedance path.", 22 COM4 (power) "Input Common Pins. Connect to ground plane via a low impedance path.", 25 EP (power) "Connect to ground plane via a low impedance path."